# Altium integrated library 2171760001.IntLib: 1 symbol
Pins are listed as number, name and electrical type; pins without a type are passive.

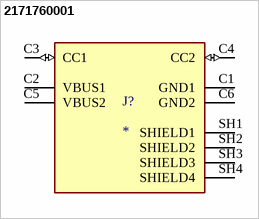
[diagram p0: symbol 2171760001]

## 2171760001
designator J?
USB-C (USB TYPE-C) - Receptacle Connector 24 (6+18 Dummy) Position Surface Mount, Right Angle; Through Hole; MF: Molex; MP: 2171760001; SnapEDA_Link: https://www.snapeda.com/parts/2171760001/Molex/view-part/?ref=snap; Package: None; Value: *; Check_prices: https://www.snapeda.com/parts/2171760001/Molex/view-part/?ref=eda
footprint MOLEX_2171760001
pins: C1 GND1 (power), C2 VBUS1 (power), C3 CC1 (io), C4 CC2 (io), C5 VBUS2 (power), C6 GND2 (power), SH1 SHIELD1, SH2 SHIELD2, SH3 SHIELD3, SH4 SHIELD4